# Altium schematic symbol library kmilo17pet-TI_MSP430.SchLib: 1463 symbols (part 35 of 130)
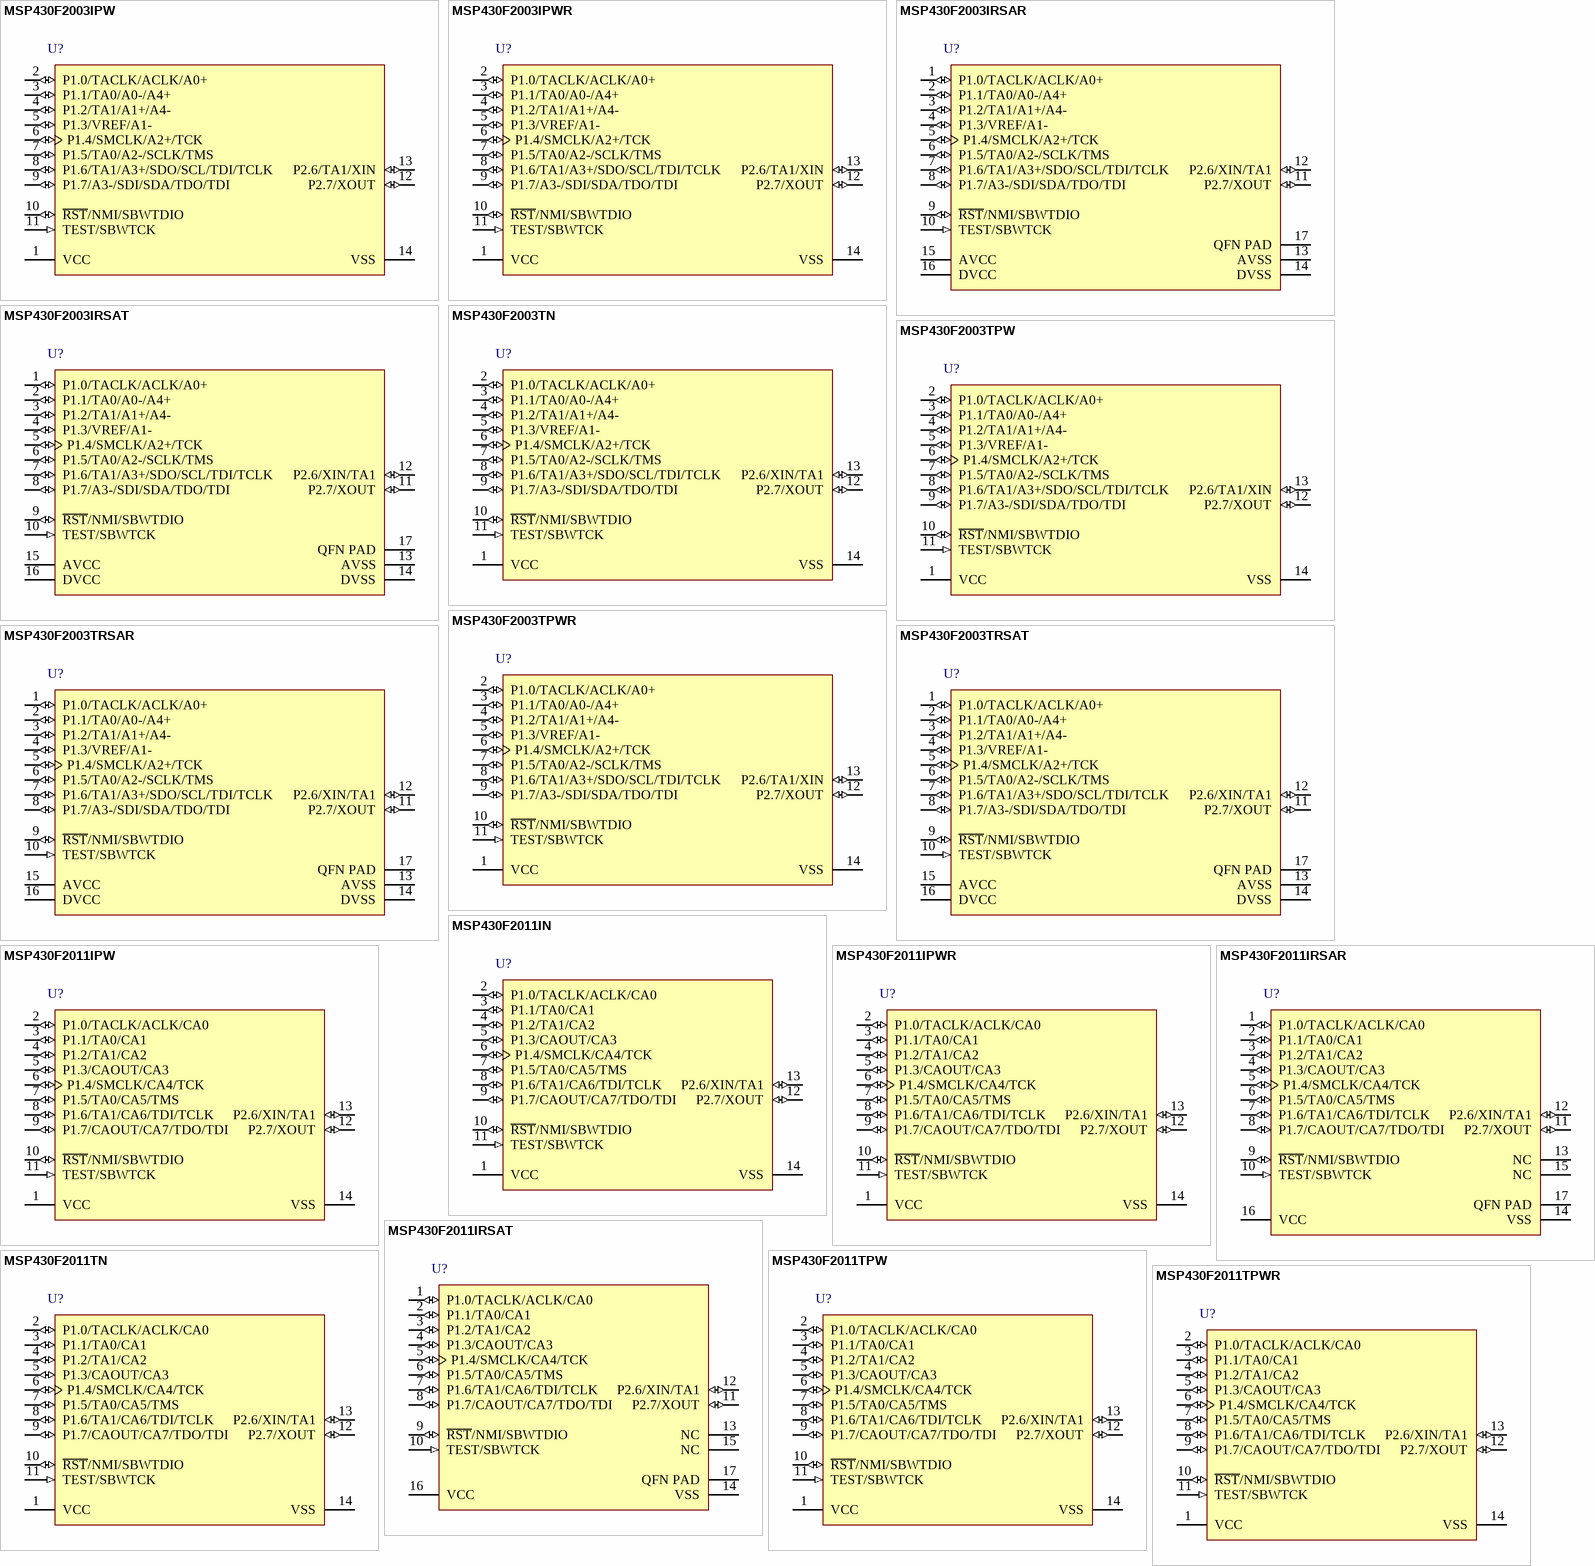
[diagram p254: symbols MSP430F2003IPW to MSP430F2011TPWR]

## MSP430F2011IRSAT
designator U?
16 MHz Mixed Signal Microcontroller with 2 KB Flash, 128 B SRAM and 10 GPIOs, -40 to 85 degC, 16-pin QFN (RSA), Green (RoHS & no Sb/Br); Manufacturer: Texas Instruments; PartNumber: MSP430F2011IRSAT; ADC: Slope; Brown Out Reset: Yes; Flash(KB): 2; Frequency(MHz): 16; GPIO: 10; SRAM(B): 128; SubFamily: 2 Series, Extended Temp; Timers - 16-bit: 1; DatasheetVersion: SLAS491H; PackageVersion: 4205141/D; PackageReference: RSA16-2700X2700TP; PackageDescription: 16-Pin Plastic Flat Pack, Body 4.00 x 4.00 mm, Pitch 0.65 mm; Supplier 1: Digi-Key; Supplier Part Number 1: MSP430F2011IRSAR-ND; Supplier 2: Newark; Supplier Part Number 2: 88K5735; Supplier 3: Mouser; Supplier Part Number 3: 595-MSP430F2011IRSAR; Comparators: Yes; Eco-Plan: Green (RoHS & no Sb/Br); Watchdog: Yes; Mounting Technology: Surface Mount; Code_JEDEC: MO-220; ComponentLink1Description: Manufacturer URL; ComponentLink1URL: http://www.ti.com/; ComponentLink2Description: Datasheet; ComponentLink2URL: http://www.ti.com/general/docs/lit/getliterature.tsp?genericPartNumber=MSP430F2011&fileType=pdf; ComponentLink3Description: Package Specification; ComponentLink3URL: http://www.ti.com/litv/pdf/mpqf145c
footprint TI-RSA16-2700X2700TP_N (QFN, 16-Leads, Body 4x4mm, Pitch 0.65mm, Thermal Pad 2.7x2.7mm, IPC Medium Density)
pins: 1 P1.0/TACLK/ACLK/CA0 (io), 2 P1.1/TA0/CA1 (io), 3 P1.2/TA1/CA2 (io), 4 P1.3/CAOUT/CA3 (io), 5 P1.4/SMCLK/CA4/TCK (io), 6 P1.5/TA0/CA5/TMS (io), 7 P1.6/TA1/CA6/TDI/TCLK (io), 8 P1.7/CAOUT/CA7/TDO/TDI (io), 9 ~{RST}/NMI/SBWTDIO (io), 10 TEST/SBWTCK (in), 11 P2.7/XOUT (io), 12 P2.6/XIN/TA1 (io), 13 NC "Not connected", 14 VSS (power) "Ground reference", 15 NC "Not connected", 16 VCC (power) "Supply voltage", 17 QFN PAD (power) "QFN package pad. Connection to VSS is recommended."

## MSP430F2011TN
designator U?
16 MHz Mixed Signal Microcontroller with 2 KB Flash, 128 B SRAM and 10 GPIOs, -40 to 105 degC, 14-pin DIP (N), Pb-Free (RoHS); Manufacturer: Texas Instruments; PartNumber: MSP430F2011TN; ADC: Slope; Brown Out Reset: Yes; Flash(KB): 2; Frequency(MHz): 16; GPIO: 10; SRAM(B): 128; SubFamily: 2 Series, Extended Temp; Timers - 16-bit: 1; DatasheetVersion: SLAS491H; PackageVersion: 4040049/E; PackageReference: N14; PackageDescription: 14-Pin Plastic In-Line, Body 19.305 x 6.35 mm, Pitch 2.54 mm; Supplier 1: Digi-Key; Supplier Part Number 1: 296-19698-2-ND; Supplier 2: Digi-Key; Supplier Part Number 2: 296-19698-1-ND; Supplier 3: Digi-Key; Supplier Part Number 3: 296-19698-6-ND; Supplier 4: Farnell; Supplier Part Number 4: 1649400; Supplier 5: Newark; Supplier Part Number 5: 85K1068; Supplier 6: Newark; Supplier Part Number 6: 15P0267; Supplier 7: Mouser; Supplier Part Number 7: 595-MSP430F2011IRSAT; Comparators: Yes; Eco-Plan: Pb-Free (RoHS); Watchdog: Yes; Mounting Technology: Through Hole; Code_JEDEC: MS-001; ComponentLink1Description: Manufacturer URL; ComponentLink1URL: http://www.ti.com/; ComponentLink2Description: Datasheet; ComponentLink2URL: http://www.ti.com/general/docs/lit/getliterature.tsp?genericPartNumber=MSP430F2011&fileType=pdf; ComponentLink3Description: Package Specification; ComponentLink3URL: http://www.ti.com/litv/pdf/mplc004a
footprint TI-N14 (DIP, 14-Leads, Body 19.305x6.35 mm, Pitch 2.54 mm)
pins: 1 VCC (power) "Supply voltage", 2 P1.0/TACLK/ACLK/CA0 (io), 3 P1.1/TA0/CA1 (io), 4 P1.2/TA1/CA2 (io), 5 P1.3/CAOUT/CA3 (io), 6 P1.4/SMCLK/CA4/TCK (io), 7 P1.5/TA0/CA5/TMS (io), 8 P1.6/TA1/CA6/TDI/TCLK (io), 9 P1.7/CAOUT/CA7/TDO/TDI (io), 10 ~{RST}/NMI/SBWTDIO (io), 11 TEST/SBWTCK (in), 12 P2.7/XOUT (io), 13 P2.6/XIN/TA1 (io), 14 VSS (power) "Ground reference"

## MSP430F2011TPW
designator U?
16 MHz Mixed Signal Microcontroller with 2 KB Flash, 128 B SRAM and 10 GPIOs, -40 to 105 degC, 14-pin SOP (PW), Green (RoHS & no Sb/Br); Manufacturer: Texas Instruments; PartNumber: MSP430F2011TPW; ADC: Slope; Brown Out Reset: Yes; Flash(KB): 2; Frequency(MHz): 16; GPIO: 10; SRAM(B): 128; SubFamily: 2 Series, Extended Temp; Timers - 16-bit: 1; DatasheetVersion: SLAS491H; PackageVersion: 4040064-3/G; PackageReference: PW14; PackageDescription: 14-Pin Plastic Small Outline, Body 5 x 4.4 mm, 0.65 mm Pitch; Supplier 1: Digi-Key; Supplier Part Number 1: 296-19699-5-ND; Supplier 2: Farnell; Supplier Part Number 2: 1753252; Supplier 3: Newark; Supplier Part Number 3: 85K1069; Supplier 4: Mouser; Supplier Part Number 4: 595-MSP430F2011TN; Comparators: Yes; Eco-Plan: Green (RoHS & no Sb/Br); Watchdog: Yes; Mounting Technology: Surface Mount; Code_JEDEC: MO-153; ComponentLink1Description: Manufacturer URL; ComponentLink1URL: http://www.ti.com/; ComponentLink2Description: Datasheet; ComponentLink2URL: http://www.ti.com/general/docs/lit/getliterature.tsp?genericPartNumber=MSP430F2011&fileType=pdf; ComponentLink3Description: Package Specification; ComponentLink3URL: http://www.ti.com/litv/pdf/mpds360
footprint TI-PW14_N (SOP, 14-Leads, Body 5x4.4mm, Pitch 0.65mm, IPC Medium Density)
pins: 1 VCC (power) "Supply voltage", 2 P1.0/TACLK/ACLK/CA0 (io), 3 P1.1/TA0/CA1 (io), 4 P1.2/TA1/CA2 (io), 5 P1.3/CAOUT/CA3 (io), 6 P1.4/SMCLK/CA4/TCK (io), 7 P1.5/TA0/CA5/TMS (io), 8 P1.6/TA1/CA6/TDI/TCLK (io), 9 P1.7/CAOUT/CA7/TDO/TDI (io), 10 ~{RST}/NMI/SBWTDIO (io), 11 TEST/SBWTCK (in), 12 P2.7/XOUT (io), 13 P2.6/XIN/TA1 (io), 14 VSS (power) "Ground reference"

## MSP430F2011TPWR
designator U?
16 MHz Mixed Signal Microcontroller with 2 KB Flash, 128 B SRAM and 10 GPIOs, -40 to 105 degC, 14-pin SOP (PW), Green (RoHS & no Sb/Br); Manufacturer: Texas Instruments; PartNumber: MSP430F2011TPWR; ADC: Slope; Brown Out Reset: Yes; Flash(KB): 2; Frequency(MHz): 16; GPIO: 10; SRAM(B): 128; SubFamily: 2 Series, Extended Temp; Timers - 16-bit: 1; DatasheetVersion: SLAS491H; PackageVersion: 4040064-3/G; PackageReference: PW14; PackageDescription: 14-Pin Plastic Small Outline, Body 5 x 4.4 mm, 0.65 mm Pitch; Supplier 1: Digi-Key; Supplier Part Number 1: MSP430F2011TPW-ND; Supplier 2: Farnell; Supplier Part Number 2: 1649402; Supplier 3: Newark; Supplier Part Number 3: 88K5736; Supplier 4: Mouser; Supplier Part Number 4: 595-MSP430F2011TPW; Comparators: Yes; Eco-Plan: Green (RoHS & no Sb/Br); Watchdog: Yes; Mounting Technology: Surface Mount; Code_JEDEC: MO-153; ComponentLink1Description: Manufacturer URL; ComponentLink1URL: http://www.ti.com/; ComponentLink2Description: Datasheet; ComponentLink2URL: http://www.ti.com/general/docs/lit/getliterature.tsp?genericPartNumber=MSP430F2011&fileType=pdf; ComponentLink3Description: Package Specification; ComponentLink3URL: http://www.ti.com/litv/pdf/mpds360
footprint TI-PW14_N (SOP, 14-Leads, Body 5x4.4mm, Pitch 0.65mm, IPC Medium Density)
pins: 1 VCC (power) "Supply voltage", 2 P1.0/TACLK/ACLK/CA0 (io), 3 P1.1/TA0/CA1 (io), 4 P1.2/TA1/CA2 (io), 5 P1.3/CAOUT/CA3 (io), 6 P1.4/SMCLK/CA4/TCK (io), 7 P1.5/TA0/CA5/TMS (io), 8 P1.6/TA1/CA6/TDI/TCLK (io), 9 P1.7/CAOUT/CA7/TDO/TDI (io), 10 ~{RST}/NMI/SBWTDIO (io), 11 TEST/SBWTCK (in), 12 P2.7/XOUT (io), 13 P2.6/XIN/TA1 (io), 14 VSS (power) "Ground reference"

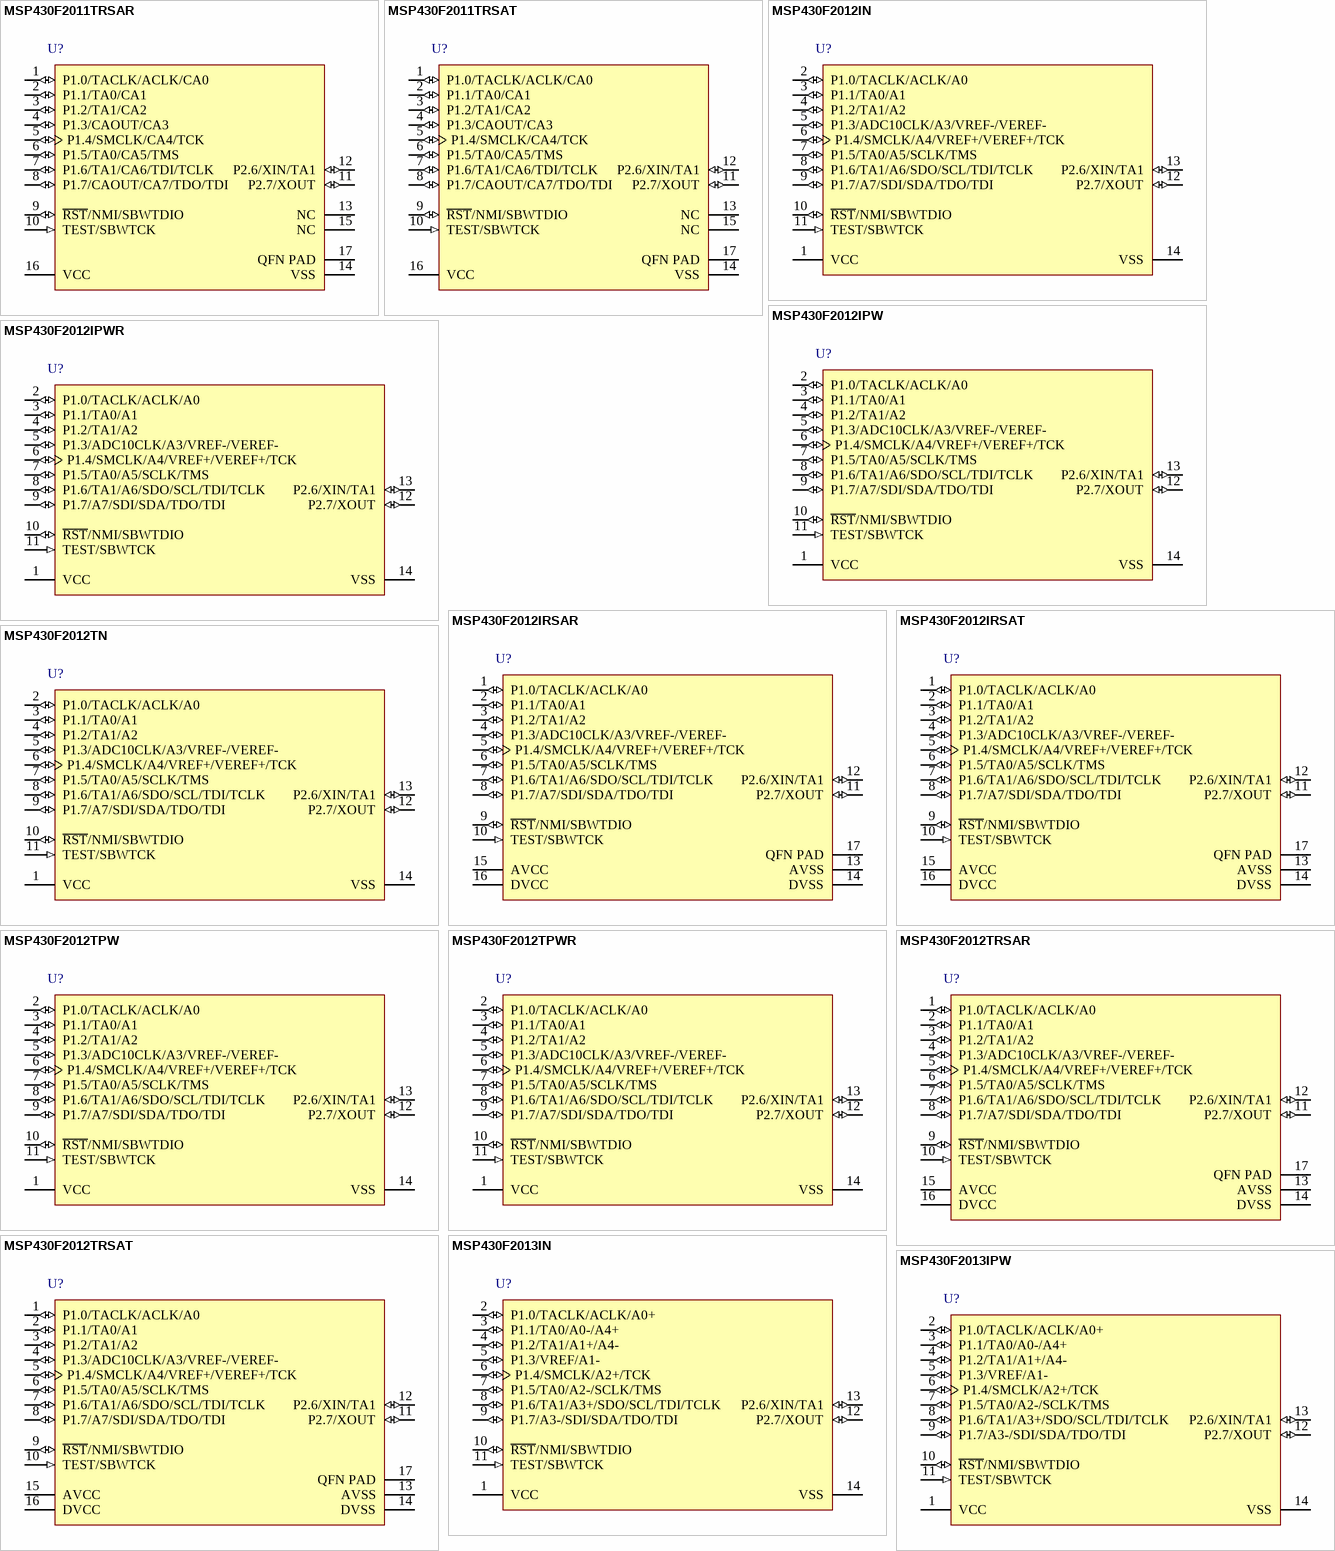
[diagram p50: symbols MSP430F2011TRSAR to MSP430F2013IPW]

## MSP430F2011TRSAR
designator U?
16 MHz Mixed Signal Microcontroller with 2 KB Flash, 128 B SRAM and 10 GPIOs, -40 to 105 degC, 16-pin QFN (RSA), Green (RoHS & no Sb/Br); Manufacturer: Texas Instruments; PartNumber: MSP430F2011TRSAR; ADC: Slope; Brown Out Reset: Yes; Flash(KB): 2; Frequency(MHz): 16; GPIO: 10; SRAM(B): 128; SubFamily: 2 Series, Extended Temp; Timers - 16-bit: 1; DatasheetVersion: SLAS491H; PackageVersion: 4205141/D; PackageReference: RSA16-2700X2700TP; PackageDescription: 16-Pin Plastic Flat Pack, Body 4.00 x 4.00 mm, Pitch 0.65 mm; Supplier 1: Digi-Key; Supplier Part Number 1: 296-19700-2-ND; Supplier 2: Digi-Key; Supplier Part Number 2: 296-19700-1-ND; Supplier 3: Digi-Key; Supplier Part Number 3: 296-19700-6-ND; Supplier 4: Newark; Supplier Part Number 4: 85K1070; Supplier 5: Mouser; Supplier Part Number 5: 595-MSP430F2011TPWR; Comparators: Yes; Eco-Plan: Green (RoHS & no Sb/Br); Watchdog: Yes; Mounting Technology: Surface Mount; Code_JEDEC: MO-220; ComponentLink1Description: Manufacturer URL; ComponentLink1URL: http://www.ti.com/; ComponentLink2Description: Datasheet; ComponentLink2URL: http://www.ti.com/general/docs/lit/getliterature.tsp?genericPartNumber=MSP430F2011&fileType=pdf; ComponentLink3Description: Package Specification; ComponentLink3URL: http://www.ti.com/litv/pdf/mpqf145c
footprint TI-RSA16-2700X2700TP_N (QFN, 16-Leads, Body 4x4mm, Pitch 0.65mm, Thermal Pad 2.7x2.7mm, IPC Medium Density)
pins: 1 P1.0/TACLK/ACLK/CA0 (io), 2 P1.1/TA0/CA1 (io), 3 P1.2/TA1/CA2 (io), 4 P1.3/CAOUT/CA3 (io), 5 P1.4/SMCLK/CA4/TCK (io), 6 P1.5/TA0/CA5/TMS (io), 7 P1.6/TA1/CA6/TDI/TCLK (io), 8 P1.7/CAOUT/CA7/TDO/TDI (io), 9 ~{RST}/NMI/SBWTDIO (io), 10 TEST/SBWTCK (in), 11 P2.7/XOUT (io), 12 P2.6/XIN/TA1 (io), 13 NC "Not connected", 14 VSS (power) "Ground reference", 15 NC "Not connected", 16 VCC (power) "Supply voltage", 17 QFN PAD (power) "QFN package pad. Connection to VSS is recommended."

## MSP430F2011TRSAT
designator U?
16 MHz Mixed Signal Microcontroller with 2 KB Flash, 128 B SRAM and 10 GPIOs, -40 to 105 degC, 16-pin QFN (RSA), Green (RoHS & no Sb/Br); Manufacturer: Texas Instruments; PartNumber: MSP430F2011TRSAT; ADC: Slope; Brown Out Reset: Yes; Flash(KB): 2; Frequency(MHz): 16; GPIO: 10; SRAM(B): 128; SubFamily: 2 Series, Extended Temp; Timers - 16-bit: 1; DatasheetVersion: SLAS491H; PackageVersion: 4205141/D; PackageReference: RSA16-2700X2700TP; PackageDescription: 16-Pin Plastic Flat Pack, Body 4.00 x 4.00 mm, Pitch 0.65 mm; Supplier 1: Digi-Key; Supplier Part Number 1: MSP430F2011TRSAR-ND; Supplier 2: Newark; Supplier Part Number 2: 88K5737; Supplier 3: Mouser; Supplier Part Number 3: 595-MSP430F2011TRSAR; Comparators: Yes; Eco-Plan: Green (RoHS & no Sb/Br); Watchdog: Yes; Mounting Technology: Surface Mount; Code_JEDEC: MO-220; ComponentLink1Description: Manufacturer URL; ComponentLink1URL: http://www.ti.com/; ComponentLink2Description: Datasheet; ComponentLink2URL: http://www.ti.com/general/docs/lit/getliterature.tsp?genericPartNumber=MSP430F2011&fileType=pdf; ComponentLink3Description: Package Specification; ComponentLink3URL: http://www.ti.com/litv/pdf/mpqf145c
footprint TI-RSA16-2700X2700TP_N (QFN, 16-Leads, Body 4x4mm, Pitch 0.65mm, Thermal Pad 2.7x2.7mm, IPC Medium Density)
pins: 1 P1.0/TACLK/ACLK/CA0 (io), 2 P1.1/TA0/CA1 (io), 3 P1.2/TA1/CA2 (io), 4 P1.3/CAOUT/CA3 (io), 5 P1.4/SMCLK/CA4/TCK (io), 6 P1.5/TA0/CA5/TMS (io), 7 P1.6/TA1/CA6/TDI/TCLK (io), 8 P1.7/CAOUT/CA7/TDO/TDI (io), 9 ~{RST}/NMI/SBWTDIO (io), 10 TEST/SBWTCK (in), 11 P2.7/XOUT (io), 12 P2.6/XIN/TA1 (io), 13 NC "Not connected", 14 VSS (power) "Ground reference", 15 NC "Not connected", 16 VCC (power) "Supply voltage", 17 QFN PAD (power) "QFN package pad. Connection to VSS is recommended."

## MSP430F2012IN
designator U?
16 MHz Mixed Signal Microcontroller with 2 KB Flash, 128 B SRAM and 10 GPIOs, -40 to 85 degC, 14-pin DIP (N), Pb-Free (RoHS); Manufacturer: Texas Instruments; PartNumber: MSP430F2012IN; ADC: 10-bit SAR; ADC Channels: 8; Brown Out Reset: Yes; Flash(KB): 2; Frequency(MHz): 16; GPIO: 10; SRAM(B): 128; SubFamily: 2 Series, Extended Temp; Timers - 16-bit: 1; DatasheetVersion: SLAS491H; PackageVersion: 4040049/E; PackageReference: N14; PackageDescription: 14-Pin Plastic In-Line, Body 19.305 x 6.35 mm, Pitch 2.54 mm; Supplier 1: Digi-Key; Supplier Part Number 1: 296-19701-2-ND; Supplier 2: Digi-Key; Supplier Part Number 2: 296-19701-1-ND; Supplier 3: Digi-Key; Supplier Part Number 3: 296-19701-6-ND; Supplier 4: Farnell; Supplier Part Number 4: 1753254; Supplier 5: Newark; Supplier Part Number 5: 93R5518; Supplier 6: Mouser; Supplier Part Number 6: 595-MSP430F2011TRSAT; Eco-Plan: Pb-Free (RoHS); Temp Sensor: Yes; Watchdog: Yes; Mounting Technology: Through Hole; Code_JEDEC: MS-001; ComponentLink1Description: Manufacturer URL; ComponentLink1URL: http://www.ti.com/; ComponentLink2Description: Datasheet; ComponentLink2URL: http://www.ti.com/general/docs/lit/getliterature.tsp?genericPartNumber=MSP430F2012&fileType=pdf; ComponentLink3Description: Package Specification; ComponentLink3URL: http://www.ti.com/litv/pdf/mplc004a
footprint TI-N14 (DIP, 14-Leads, Body 19.305x6.35 mm, Pitch 2.54 mm)
pins: 1 VCC (power) "Supply voltage.", 2 P1.0/TACLK/ACLK/A0 (io), 3 P1.1/TA0/A1 (io), 4 P1.2/TA1/A2 (io), 5 P1.3/ADC10CLK/A3/VREF-/VEREF- (io), 6 P1.4/SMCLK/A4/VREF+/VEREF+/TCK (io), 7 P1.5/TA0/A5/SCLK/TMS (io), 8 P1.6/TA1/A6/SDO/SCL/TDI/TCLK (io), 9 P1.7/A7/SDI/SDA/TDO/TDI (io), 10 ~{RST}/NMI/SBWTDIO (io), 11 TEST/SBWTCK (in), 12 P2.7/XOUT (io), 13 P2.6/XIN/TA1 (io), 14 VSS (power) "Ground reference."

## MSP430F2012IPW
designator U?
16 MHz Mixed Signal Microcontroller with 2 KB Flash, 128 B SRAM and 10 GPIOs, -40 to 85 degC, 14-pin SOP (PW), Green (RoHS & no Sb/Br); Manufacturer: Texas Instruments; PartNumber: MSP430F2012IPW; ADC: 10-bit SAR; ADC Channels: 8; Brown Out Reset: Yes; Flash(KB): 2; Frequency(MHz): 16; GPIO: 10; SRAM(B): 128; SubFamily: 2 Series, Extended Temp; Timers - 16-bit: 1; DatasheetVersion: SLAS491H; PackageVersion: 4040064-3/G; PackageReference: PW14; PackageDescription: 14-Pin Plastic Small Outline, Body 5 x 4.4 mm, 0.65 mm Pitch; Supplier 1: Digi-Key; Supplier Part Number 1: 296-19730-5-ND; Supplier 2: Farnell; Supplier Part Number 2: 1610175; Supplier 3: Newark; Supplier Part Number 3: 02P6866; Supplier 4: Mouser; Supplier Part Number 4: 595-MSP430F2012IN; Eco-Plan: Green (RoHS & no Sb/Br); Temp Sensor: Yes; Watchdog: Yes; Mounting Technology: Surface Mount; Code_JEDEC: MO-153; ComponentLink1Description: Manufacturer URL; ComponentLink1URL: http://www.ti.com/; ComponentLink2Description: Datasheet; ComponentLink2URL: http://www.ti.com/general/docs/lit/getliterature.tsp?genericPartNumber=MSP430F2012&fileType=pdf; ComponentLink3Description: Package Specification; ComponentLink3URL: http://www.ti.com/litv/pdf/mpds360
footprint TI-PW14_N (SOP, 14-Leads, Body 5x4.4mm, Pitch 0.65mm, IPC Medium Density)
pins: 1 VCC (power) "Supply voltage.", 2 P1.0/TACLK/ACLK/A0 (io), 3 P1.1/TA0/A1 (io), 4 P1.2/TA1/A2 (io), 5 P1.3/ADC10CLK/A3/VREF-/VEREF- (io), 6 P1.4/SMCLK/A4/VREF+/VEREF+/TCK (io), 7 P1.5/TA0/A5/SCLK/TMS (io), 8 P1.6/TA1/A6/SDO/SCL/TDI/TCLK (io), 9 P1.7/A7/SDI/SDA/TDO/TDI (io), 10 ~{RST}/NMI/SBWTDIO (io), 11 TEST/SBWTCK (in), 12 P2.7/XOUT (io), 13 P2.6/XIN/TA1 (io), 14 VSS (power) "Ground reference."

## MSP430F2012IPWR
designator U?
16 MHz Mixed Signal Microcontroller with 2 KB Flash, 128 B SRAM and 10 GPIOs, -40 to 85 degC, 14-pin SOP (PW), Green (RoHS & no Sb/Br); Manufacturer: Texas Instruments; PartNumber: MSP430F2012IPWR; ADC: 10-bit SAR; ADC Channels: 8; Brown Out Reset: Yes; Flash(KB): 2; Frequency(MHz): 16; GPIO: 10; SRAM(B): 128; SubFamily: 2 Series, Extended Temp; Timers - 16-bit: 1; DatasheetVersion: SLAS491H; PackageVersion: 4040064-3/G; PackageReference: PW14; PackageDescription: 14-Pin Plastic Small Outline, Body 5 x 4.4 mm, 0.65 mm Pitch; Supplier 1: Digi-Key; Supplier Part Number 1: 296-26192-5-ND; Supplier 2: Farnell; Supplier Part Number 2: 1471274; Supplier 3: Newark; Supplier Part Number 3: 99K3820; Supplier 4: Mouser; Supplier Part Number 4: 595-MSP430F2012IPW; Eco-Plan: Green (RoHS & no Sb/Br); Temp Sensor: Yes; Watchdog: Yes; Mounting Technology: Surface Mount; Code_JEDEC: MO-153; ComponentLink1Description: Manufacturer URL; ComponentLink1URL: http://www.ti.com/; ComponentLink2Description: Datasheet; ComponentLink2URL: http://www.ti.com/general/docs/lit/getliterature.tsp?genericPartNumber=MSP430F2012&fileType=pdf; ComponentLink3Description: Package Specification; ComponentLink3URL: http://www.ti.com/litv/pdf/mpds360
footprint TI-PW14_N (SOP, 14-Leads, Body 5x4.4mm, Pitch 0.65mm, IPC Medium Density)
pins: 1 VCC (power) "Supply voltage.", 2 P1.0/TACLK/ACLK/A0 (io), 3 P1.1/TA0/A1 (io), 4 P1.2/TA1/A2 (io), 5 P1.3/ADC10CLK/A3/VREF-/VEREF- (io), 6 P1.4/SMCLK/A4/VREF+/VEREF+/TCK (io), 7 P1.5/TA0/A5/SCLK/TMS (io), 8 P1.6/TA1/A6/SDO/SCL/TDI/TCLK (io), 9 P1.7/A7/SDI/SDA/TDO/TDI (io), 10 ~{RST}/NMI/SBWTDIO (io), 11 TEST/SBWTCK (in), 12 P2.7/XOUT (io), 13 P2.6/XIN/TA1 (io), 14 VSS (power) "Ground reference."

## MSP430F2012IRSAR
designator U?
16 MHz Mixed Signal Microcontroller with 2 KB Flash, 128 B SRAM and 10 GPIOs, -40 to 85 degC, 16-pin QFN (RSA), Green (RoHS & no Sb/Br); Manufacturer: Texas Instruments; PartNumber: MSP430F2012IRSAR; ADC: 10-bit SAR; ADC Channels: 8; Brown Out Reset: Yes; Flash(KB): 2; Frequency(MHz): 16; GPIO: 10; SRAM(B): 128; SubFamily: 2 Series, Extended Temp; Timers - 16-bit: 1; DatasheetVersion: SLAS491H; PackageVersion: 4205141/D; PackageReference: RSA16-2700X2700TP; PackageDescription: 16-Pin Plastic Flat Pack, Body 4.00 x 4.00 mm, Pitch 0.65 mm; Supplier 1: Digi-Key; Supplier Part Number 1: 296-19731-2-ND; Supplier 2: Digi-Key; Supplier Part Number 2: 296-19731-1-ND; Supplier 3: Digi-Key; Supplier Part Number 3: 296-19731-6-ND; Supplier 4: Farnell; Supplier Part Number 4: 1846720; Supplier 5: Newark; Supplier Part Number 5: 88K5739; Supplier 6: Mouser; Supplier Part Number 6: 595-MSP430F2012IPWR; Eco-Plan: Green (RoHS & no Sb/Br); Temp Sensor: Yes; Watchdog: Yes; Mounting Technology: Surface Mount; Code_JEDEC: MO-220; ComponentLink1Description: Manufacturer URL; ComponentLink1URL: http://www.ti.com/; ComponentLink2Description: Datasheet; ComponentLink2URL: http://www.ti.com/general/docs/lit/getliterature.tsp?genericPartNumber=MSP430F2012&fileType=pdf; ComponentLink3Description: Package Specification; ComponentLink3URL: http://www.ti.com/litv/pdf/mpqf145c
footprint TI-RSA16-2700X2700TP_N (QFN, 16-Leads, Body 4x4mm, Pitch 0.65mm, Thermal Pad 2.7x2.7mm, IPC Medium Density)
pins: 1 P1.0/TACLK/ACLK/A0 (io), 2 P1.1/TA0/A1 (io), 3 P1.2/TA1/A2 (io), 4 P1.3/ADC10CLK/A3/VREF-/VEREF- (io), 5 P1.4/SMCLK/A4/VREF+/VEREF+/TCK (io), 6 P1.5/TA0/A5/SCLK/TMS (io), 7 P1.6/TA1/A6/SDO/SCL/TDI/TCLK (io), 8 P1.7/A7/SDI/SDA/TDO/TDI (io), 9 ~{RST}/NMI/SBWTDIO (io), 10 TEST/SBWTCK (in), 11 P2.7/XOUT (io), 12 P2.6/XIN/TA1 (io), 13 AVSS (power) "Analog ground reference", 14 DVSS (power) "Digital ground reference", 15 AVCC (power) "Analog supply voltage", 16 DVCC (power) "Digital supply voltage", 17 QFN PAD (power) "QFN package pad. Connection to VSS is recommended."

## MSP430F2012IRSAT
designator U?
16 MHz Mixed Signal Microcontroller with 2 KB Flash, 128 B SRAM and 10 GPIOs, -40 to 85 degC, 16-pin QFN (RSA), Green (RoHS & no Sb/Br); Manufacturer: Texas Instruments; PartNumber: MSP430F2012IRSAT; ADC: 10-bit SAR; ADC Channels: 8; Brown Out Reset: Yes; Flash(KB): 2; Frequency(MHz): 16; GPIO: 10; SRAM(B): 128; SubFamily: 2 Series, Extended Temp; Timers - 16-bit: 1; DatasheetVersion: SLAS491H; PackageVersion: 4205141/D; PackageReference: RSA16-2700X2700TP; PackageDescription: 16-Pin Plastic Flat Pack, Body 4.00 x 4.00 mm, Pitch 0.65 mm; Supplier 1: Digi-Key; Supplier Part Number 1: MSP430F2012IRSAR-ND; Supplier 2: Newark; Supplier Part Number 2: 99K3821; Supplier 3: Mouser; Supplier Part Number 3: 595-MSP430F2012IRSAR; Eco-Plan: Green (RoHS & no Sb/Br); Temp Sensor: Yes; Watchdog: Yes; Mounting Technology: Surface Mount; Code_JEDEC: MO-220; ComponentLink1Description: Manufacturer URL; ComponentLink1URL: http://www.ti.com/; ComponentLink2Description: Datasheet; ComponentLink2URL: http://www.ti.com/general/docs/lit/getliterature.tsp?genericPartNumber=MSP430F2012&fileType=pdf; ComponentLink3Description: Package Specification; ComponentLink3URL: http://www.ti.com/litv/pdf/mpqf145c
footprint TI-RSA16-2700X2700TP_N (QFN, 16-Leads, Body 4x4mm, Pitch 0.65mm, Thermal Pad 2.7x2.7mm, IPC Medium Density)
pins: 1 P1.0/TACLK/ACLK/A0 (io), 2 P1.1/TA0/A1 (io), 3 P1.2/TA1/A2 (io), 4 P1.3/ADC10CLK/A3/VREF-/VEREF- (io), 5 P1.4/SMCLK/A4/VREF+/VEREF+/TCK (io), 6 P1.5/TA0/A5/SCLK/TMS (io), 7 P1.6/TA1/A6/SDO/SCL/TDI/TCLK (io), 8 P1.7/A7/SDI/SDA/TDO/TDI (io), 9 ~{RST}/NMI/SBWTDIO (io), 10 TEST/SBWTCK (in), 11 P2.7/XOUT (io), 12 P2.6/XIN/TA1 (io), 13 AVSS (power) "Analog ground reference", 14 DVSS (power) "Digital ground reference", 15 AVCC (power) "Analog supply voltage", 16 DVCC (power) "Digital supply voltage", 17 QFN PAD (power) "QFN package pad. Connection to VSS is recommended."

## MSP430F2012TN
designator U?
16 MHz Mixed Signal Microcontroller with 2 KB Flash, 128 B SRAM and 10 GPIOs, -40 to 105 degC, 14-pin DIP (N), Pb-Free (RoHS); Manufacturer: Texas Instruments; PartNumber: MSP430F2012TN; ADC: 10-bit SAR; ADC Channels: 8; Brown Out Reset: Yes; Flash(KB): 2; Frequency(MHz): 16; GPIO: 10; SRAM(B): 128; SubFamily: 2 Series, Extended Temp; Timers - 16-bit: 1; DatasheetVersion: SLAS491H; PackageVersion: 4040049/E; PackageReference: N14; PackageDescription: 14-Pin Plastic In-Line, Body 19.305 x 6.35 mm, Pitch 2.54 mm; Supplier 1: Digi-Key; Supplier Part Number 1: 296-19732-2-ND; Supplier 2: Digi-Key; Supplier Part Number 2: 296-19732-1-ND; Supplier 3: Digi-Key; Supplier Part Number 3: 296-19732-6-ND; Supplier 4: Farnell; Supplier Part Number 4: 1649403; Supplier 5: Newark; Supplier Part Number 5: 88K5740; Supplier 6: Newark; Supplier Part Number 6: 15P0268; Supplier 7: Mouser; Supplier Part Number 7: 595-MSP430F2012IRSAT; Eco-Plan: Pb-Free (RoHS); Temp Sensor: Yes; Watchdog: Yes; Mounting Technology: Through Hole; Code_JEDEC: MS-001; ComponentLink1Description: Manufacturer URL; ComponentLink1URL: http://www.ti.com/; ComponentLink2Description: Datasheet; ComponentLink2URL: http://www.ti.com/general/docs/lit/getliterature.tsp?genericPartNumber=MSP430F2012&fileType=pdf; ComponentLink3Description: Package Specification; ComponentLink3URL: http://www.ti.com/litv/pdf/mplc004a
footprint TI-N14 (DIP, 14-Leads, Body 19.305x6.35 mm, Pitch 2.54 mm)
pins: 1 VCC (power) "Supply voltage.", 2 P1.0/TACLK/ACLK/A0 (io), 3 P1.1/TA0/A1 (io), 4 P1.2/TA1/A2 (io), 5 P1.3/ADC10CLK/A3/VREF-/VEREF- (io), 6 P1.4/SMCLK/A4/VREF+/VEREF+/TCK (io), 7 P1.5/TA0/A5/SCLK/TMS (io), 8 P1.6/TA1/A6/SDO/SCL/TDI/TCLK (io), 9 P1.7/A7/SDI/SDA/TDO/TDI (io), 10 ~{RST}/NMI/SBWTDIO (io), 11 TEST/SBWTCK (in), 12 P2.7/XOUT (io), 13 P2.6/XIN/TA1 (io), 14 VSS (power) "Ground reference."

## MSP430F2012TPW
designator U?
16 MHz Mixed Signal Microcontroller with 2 KB Flash, 128 B SRAM and 10 GPIOs, -40 to 105 degC, 14-pin SOP (PW), Green (RoHS & no Sb/Br); Manufacturer: Texas Instruments; PartNumber: MSP430F2012TPW; ADC: 10-bit SAR; ADC Channels: 8; Brown Out Reset: Yes; Flash(KB): 2; Frequency(MHz): 16; GPIO: 10; SRAM(B): 128; SubFamily: 2 Series, Extended Temp; Timers - 16-bit: 1; DatasheetVersion: SLAS491H; PackageVersion: 4040064-3/G; PackageReference: PW14; PackageDescription: 14-Pin Plastic Small Outline, Body 5 x 4.4 mm, 0.65 mm Pitch; Supplier 1: Digi-Key; Supplier Part Number 1: 296-19733-5-ND; Supplier 2: Farnell; Supplier Part Number 2: 1649404; Supplier 3: Newark; Supplier Part Number 3: 88K5741; Supplier 4: Mouser; Supplier Part Number 4: 595-MSP430F2012TN; Eco-Plan: Green (RoHS & no Sb/Br); Temp Sensor: Yes; Watchdog: Yes; Mounting Technology: Surface Mount; Code_JEDEC: MO-153; ComponentLink1Description: Manufacturer URL; ComponentLink1URL: http://www.ti.com/; ComponentLink2Description: Datasheet; ComponentLink2URL: http://www.ti.com/general/docs/lit/getliterature.tsp?genericPartNumber=MSP430F2012&fileType=pdf; ComponentLink3Description: Package Specification; ComponentLink3URL: http://www.ti.com/litv/pdf/mpds360
footprint TI-PW14_N (SOP, 14-Leads, Body 5x4.4mm, Pitch 0.65mm, IPC Medium Density)
pins: 1 VCC (power) "Supply voltage.", 2 P1.0/TACLK/ACLK/A0 (io), 3 P1.1/TA0/A1 (io), 4 P1.2/TA1/A2 (io), 5 P1.3/ADC10CLK/A3/VREF-/VEREF- (io), 6 P1.4/SMCLK/A4/VREF+/VEREF+/TCK (io), 7 P1.5/TA0/A5/SCLK/TMS (io), 8 P1.6/TA1/A6/SDO/SCL/TDI/TCLK (io), 9 P1.7/A7/SDI/SDA/TDO/TDI (io), 10 ~{RST}/NMI/SBWTDIO (io), 11 TEST/SBWTCK (in), 12 P2.7/XOUT (io), 13 P2.6/XIN/TA1 (io), 14 VSS (power) "Ground reference."

## MSP430F2012TPWR
designator U?
16 MHz Mixed Signal Microcontroller with 2 KB Flash, 128 B SRAM and 10 GPIOs, -40 to 105 degC, 14-pin SOP (PW), Green (RoHS & no Sb/Br); Manufacturer: Texas Instruments; PartNumber: MSP430F2012TPWR; ADC: 10-bit SAR; ADC Channels: 8; Brown Out Reset: Yes; Flash(KB): 2; Frequency(MHz): 16; GPIO: 10; SRAM(B): 128; SubFamily: 2 Series, Extended Temp; Timers - 16-bit: 1; DatasheetVersion: SLAS491H; PackageVersion: 4040064-3/G; PackageReference: PW14; PackageDescription: 14-Pin Plastic Small Outline, Body 5 x 4.4 mm, 0.65 mm Pitch; Supplier 1: Digi-Key; Supplier Part Number 1: 296-33416-5-ND; Supplier 2: Farnell; Supplier Part Number 2: 1649405; Supplier 3: Newark; Supplier Part Number 3: 99K3822; Supplier 4: Mouser; Supplier Part Number 4: 595-MSP430F2012TPW; Eco-Plan: Green (RoHS & no Sb/Br); Temp Sensor: Yes; Watchdog: Yes; Mounting Technology: Surface Mount; Code_JEDEC: MO-153; ComponentLink1Description: Manufacturer URL; ComponentLink1URL: http://www.ti.com/; ComponentLink2Description: Datasheet; ComponentLink2URL: http://www.ti.com/general/docs/lit/getliterature.tsp?genericPartNumber=MSP430F2012&fileType=pdf; ComponentLink3Description: Package Specification; ComponentLink3URL: http://www.ti.com/litv/pdf/mpds360
footprint TI-PW14_N (SOP, 14-Leads, Body 5x4.4mm, Pitch 0.65mm, IPC Medium Density)
pins: 1 VCC (power) "Supply voltage.", 2 P1.0/TACLK/ACLK/A0 (io), 3 P1.1/TA0/A1 (io), 4 P1.2/TA1/A2 (io), 5 P1.3/ADC10CLK/A3/VREF-/VEREF- (io), 6 P1.4/SMCLK/A4/VREF+/VEREF+/TCK (io), 7 P1.5/TA0/A5/SCLK/TMS (io), 8 P1.6/TA1/A6/SDO/SCL/TDI/TCLK (io), 9 P1.7/A7/SDI/SDA/TDO/TDI (io), 10 ~{RST}/NMI/SBWTDIO (io), 11 TEST/SBWTCK (in), 12 P2.7/XOUT (io), 13 P2.6/XIN/TA1 (io), 14 VSS (power) "Ground reference."

## MSP430F2012TRSAR
designator U?
16 MHz Mixed Signal Microcontroller with 2 KB Flash, 128 B SRAM and 10 GPIOs, -40 to 105 degC, 16-pin QFN (RSA), Green (RoHS & no Sb/Br); Manufacturer: Texas Instruments; PartNumber: MSP430F2012TRSAR; ADC: 10-bit SAR; ADC Channels: 8; Brown Out Reset: Yes; Flash(KB): 2; Frequency(MHz): 16; GPIO: 10; SRAM(B): 128; SubFamily: 2 Series, Extended Temp; Timers - 16-bit: 1; DatasheetVersion: SLAS491H; PackageVersion: 4205141/D; PackageReference: RSA16-2700X2700TP; PackageDescription: 16-Pin Plastic Flat Pack, Body 4.00 x 4.00 mm, Pitch 0.65 mm; Supplier 1: Digi-Key; Supplier Part Number 1: 296-19734-2-ND; Supplier 2: Digi-Key; Supplier Part Number 2: 296-19734-1-ND; Supplier 3: Digi-Key; Supplier Part Number 3: 296-19734-6-ND; Supplier 4: Farnell; Supplier Part Number 4: 1846721; Supplier 5: Newark; Supplier Part Number 5: 88K5742; Supplier 6: Mouser; Supplier Part Number 6: 595-MSP430F2012TPWR; Eco-Plan: Green (RoHS & no Sb/Br); Temp Sensor: Yes; Watchdog: Yes; Mounting Technology: Surface Mount; Code_JEDEC: MO-220; ComponentLink1Description: Manufacturer URL; ComponentLink1URL: http://www.ti.com/; ComponentLink2Description: Datasheet; ComponentLink2URL: http://www.ti.com/general/docs/lit/getliterature.tsp?genericPartNumber=MSP430F2012&fileType=pdf; ComponentLink3Description: Package Specification; ComponentLink3URL: http://www.ti.com/litv/pdf/mpqf145c
footprint TI-RSA16-2700X2700TP_N (QFN, 16-Leads, Body 4x4mm, Pitch 0.65mm, Thermal Pad 2.7x2.7mm, IPC Medium Density)
pins: 1 P1.0/TACLK/ACLK/A0 (io), 2 P1.1/TA0/A1 (io), 3 P1.2/TA1/A2 (io), 4 P1.3/ADC10CLK/A3/VREF-/VEREF- (io), 5 P1.4/SMCLK/A4/VREF+/VEREF+/TCK (io), 6 P1.5/TA0/A5/SCLK/TMS (io), 7 P1.6/TA1/A6/SDO/SCL/TDI/TCLK (io), 8 P1.7/A7/SDI/SDA/TDO/TDI (io), 9 ~{RST}/NMI/SBWTDIO (io), 10 TEST/SBWTCK (in), 11 P2.7/XOUT (io), 12 P2.6/XIN/TA1 (io), 13 AVSS (power) "Analog ground reference", 14 DVSS (power) "Digital ground reference", 15 AVCC (power) "Analog supply voltage", 16 DVCC (power) "Digital supply voltage", 17 QFN PAD (power) "QFN package pad. Connection to VSS is recommended."

## MSP430F2012TRSAT
designator U?
16 MHz Mixed Signal Microcontroller with 2 KB Flash, 128 B SRAM and 10 GPIOs, -40 to 105 degC, 16-pin QFN (RSA), Green (RoHS & no Sb/Br); Manufacturer: Texas Instruments; PartNumber: MSP430F2012TRSAT; ADC: 10-bit SAR; ADC Channels: 8; Brown Out Reset: Yes; Flash(KB): 2; Frequency(MHz): 16; GPIO: 10; SRAM(B): 128; SubFamily: 2 Series, Extended Temp; Timers - 16-bit: 1; DatasheetVersion: SLAS491H; PackageVersion: 4205141/D; PackageReference: RSA16-2700X2700TP; PackageDescription: 16-Pin Plastic Flat Pack, Body 4.00 x 4.00 mm, Pitch 0.65 mm; Supplier 1: Digi-Key; Supplier Part Number 1: MSP430F2012TRSAR-ND; Supplier 2: Mouser; Supplier Part Number 2: 595-MSP430F2012TRSAR; Eco-Plan: Green (RoHS & no Sb/Br); Temp Sensor: Yes; Watchdog: Yes; Mounting Technology: Surface Mount; Code_JEDEC: MO-220; ComponentLink1Description: Manufacturer URL; ComponentLink1URL: http://www.ti.com/; ComponentLink2Description: Datasheet; ComponentLink2URL: http://www.ti.com/general/docs/lit/getliterature.tsp?genericPartNumber=MSP430F2012&fileType=pdf; ComponentLink3Description: Package Specification; ComponentLink3URL: http://www.ti.com/litv/pdf/mpqf145c
footprint TI-RSA16-2700X2700TP_N (QFN, 16-Leads, Body 4x4mm, Pitch 0.65mm, Thermal Pad 2.7x2.7mm, IPC Medium Density)
pins: 1 P1.0/TACLK/ACLK/A0 (io), 2 P1.1/TA0/A1 (io), 3 P1.2/TA1/A2 (io), 4 P1.3/ADC10CLK/A3/VREF-/VEREF- (io), 5 P1.4/SMCLK/A4/VREF+/VEREF+/TCK (io), 6 P1.5/TA0/A5/SCLK/TMS (io), 7 P1.6/TA1/A6/SDO/SCL/TDI/TCLK (io), 8 P1.7/A7/SDI/SDA/TDO/TDI (io), 9 ~{RST}/NMI/SBWTDIO (io), 10 TEST/SBWTCK (in), 11 P2.7/XOUT (io), 12 P2.6/XIN/TA1 (io), 13 AVSS (power) "Analog ground reference", 14 DVSS (power) "Digital ground reference", 15 AVCC (power) "Analog supply voltage", 16 DVCC (power) "Digital supply voltage", 17 QFN PAD (power) "QFN package pad. Connection to VSS is recommended."

## MSP430F2013IN
designator U?
16 MHz Mixed Signal Microcontroller with 2 KB Flash, 128 B SRAM and 10 GPIOs, -40 to 85 degC, 14-pin DIP (N), Pb-Free (RoHS); Manufacturer: Texas Instruments; PartNumber: MSP430F2013IN; ADC: 16-bit Sigma Delta; ADC Channels: 4; Brown Out Reset: Yes; Flash(KB): 2; Frequency(MHz): 16; GPIO: 10; SRAM(B): 128; SubFamily: 2 Series, Extended Temp; Timers - 16-bit: 1; DatasheetVersion: SLAS491H; PackageVersion: 4040049/E; PackageReference: N14; PackageDescription: 14-Pin Plastic In-Line, Body 19.305 x 6.35 mm, Pitch 2.54 mm; Supplier 1: Digi-Key; Supplier Part Number 1: 296-19735-2-ND; Supplier 2: Digi-Key; Supplier Part Number 2: 296-19735-1-ND; Supplier 3: Digi-Key; Supplier Part Number 3: 296-19735-6-ND; Supplier 4: Farnell; Supplier Part Number 4: 1753255; Supplier 5: Newark; Supplier Part Number 5: 88K5743; Supplier 6: Mouser; Supplier Part Number 6: 595-MSP430F2012TRSAT; Eco-Plan: Pb-Free (RoHS); Temp Sensor: Yes; Watchdog: Yes; Mounting Technology: Through Hole; Code_JEDEC: MS-001; ComponentLink1Description: Manufacturer URL; ComponentLink1URL: http://www.ti.com/; ComponentLink2Description: Datasheet; ComponentLink2URL: http://www.ti.com/general/docs/lit/getliterature.tsp?genericPartNumber=MSP430F2013&fileType=pdf; ComponentLink3Description: Package Specification; ComponentLink3URL: http://www.ti.com/litv/pdf/mplc004a
footprint TI-N14 (DIP, 14-Leads, Body 19.305x6.35 mm, Pitch 2.54 mm)
pins: 1 VCC (power) "Supply voltage", 2 P1.0/TACLK/ACLK/A0+ (io), 3 P1.1/TA0/A0-/A4+ (io), 4 P1.2/TA1/A1+/A4- (io), 5 P1.3/VREF/A1- (io), 6 P1.4/SMCLK/A2+/TCK (io), 7 P1.5/TA0/A2-/SCLK/TMS (io), 8 P1.6/TA1/A3+/SDO/SCL/TDI/TCLK (io), 9 P1.7/A3-/SDI/SDA/TDO/TDI (io), 10 ~{RST}/NMI/SBWTDIO (io), 11 TEST/SBWTCK (in), 12 P2.7/XOUT (io), 13 P2.6/XIN/TA1 (io), 14 VSS (power) "Ground reference"

## MSP430F2013IPW
designator U?
16 MHz Mixed Signal Microcontroller with 2 KB Flash, 128 B SRAM and 10 GPIOs, -40 to 85 degC, 14-pin SOP (PW), Green (RoHS & no Sb/Br); Manufacturer: Texas Instruments; PartNumber: MSP430F2013IPW; ADC: 16-bit Sigma Delta; ADC Channels: 4; Brown Out Reset: Yes; Flash(KB): 2; Frequency(MHz): 16; GPIO: 10; SRAM(B): 128; SubFamily: 2 Series, Extended Temp; Timers - 16-bit: 1; DatasheetVersion: SLAS491H; PackageVersion: 4040064-3/G; PackageReference: PW14; PackageDescription: 14-Pin Plastic Small Outline, Body 5 x 4.4 mm, 0.65 mm Pitch; Supplier 1: Digi-Key; Supplier Part Number 1: 296-19702-5-ND; Supplier 2: Farnell; Supplier Part Number 2: 1610176; Supplier 3: Newark; Supplier Part Number 3: 02P6867; Supplier 4: Mouser; Supplier Part Number 4: 595-MSP430F2013IN; Eco-Plan: Green (RoHS & no Sb/Br); Temp Sensor: Yes; Watchdog: Yes; Mounting Technology: Surface Mount; Code_JEDEC: MO-153; ComponentLink1Description: Manufacturer URL; ComponentLink1URL: http://www.ti.com/; ComponentLink2Description: Datasheet; ComponentLink2URL: http://www.ti.com/general/docs/lit/getliterature.tsp?genericPartNumber=MSP430F2013&fileType=pdf; ComponentLink3Description: Package Specification; ComponentLink3URL: http://www.ti.com/litv/pdf/mpds360
footprint TI-PW14_N (SOP, 14-Leads, Body 5x4.4mm, Pitch 0.65mm, IPC Medium Density)
pins: 1 VCC (power) "Supply voltage", 2 P1.0/TACLK/ACLK/A0+ (io), 3 P1.1/TA0/A0-/A4+ (io), 4 P1.2/TA1/A1+/A4- (io), 5 P1.3/VREF/A1- (io), 6 P1.4/SMCLK/A2+/TCK (io), 7 P1.5/TA0/A2-/SCLK/TMS (io), 8 P1.6/TA1/A3+/SDO/SCL/TDI/TCLK (io), 9 P1.7/A3-/SDI/SDA/TDO/TDI (io), 10 ~{RST}/NMI/SBWTDIO (io), 11 TEST/SBWTCK (in), 12 P2.7/XOUT (io), 13 P2.6/XIN/TA1 (io), 14 VSS (power) "Ground reference"

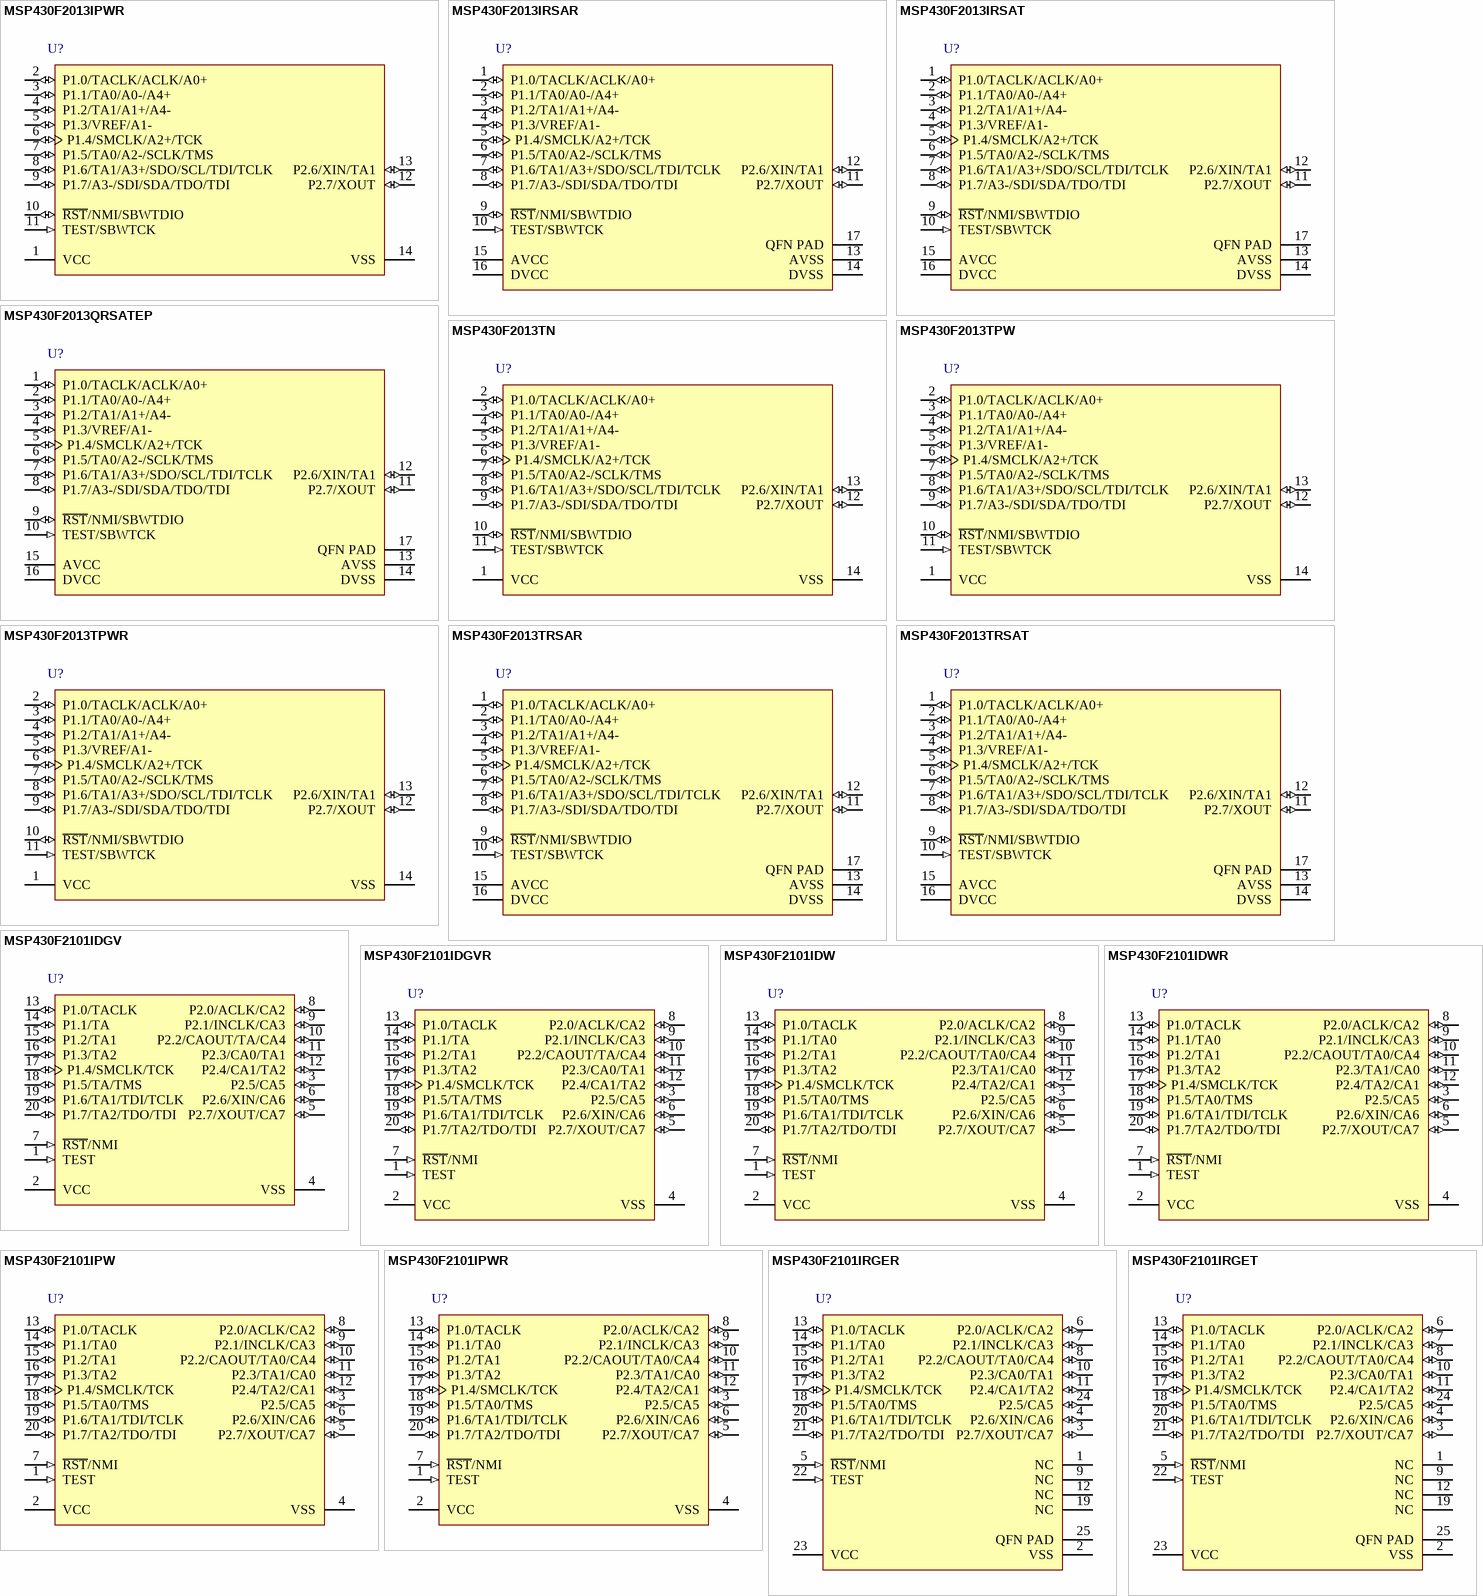
[diagram p51: symbols MSP430F2013IPWR to MSP430F2101IRGET]

## MSP430F2013IPWR
designator U?
16 MHz Mixed Signal Microcontroller with 2 KB Flash, 128 B SRAM and 10 GPIOs, -40 to 85 degC, 14-pin SOP (PW), Green (RoHS & no Sb/Br); Manufacturer: Texas Instruments; PartNumber: MSP430F2013IPWR; ADC: 16-bit Sigma Delta; ADC Channels: 4; Brown Out Reset: Yes; Flash(KB): 2; Frequency(MHz): 16; GPIO: 10; SRAM(B): 128; SubFamily: 2 Series, Extended Temp; Timers - 16-bit: 1; DatasheetVersion: SLAS491H; PackageVersion: 4040064-3/G; PackageReference: PW14; PackageDescription: 14-Pin Plastic Small Outline, Body 5 x 4.4 mm, 0.65 mm Pitch; Supplier 1: Digi-Key; Supplier Part Number 1: 296-26193-5-ND; Supplier 2: Farnell; Supplier Part Number 2: 1172228; Supplier 3: Newark; Supplier Part Number 3: 66K3842; Supplier 4: Mouser; Supplier Part Number 4: 595-MSP430F2013IPW; Eco-Plan: Green (RoHS & no Sb/Br); Temp Sensor: Yes; Watchdog: Yes; Mounting Technology: Surface Mount; Code_JEDEC: MO-153; ComponentLink1Description: Manufacturer URL; ComponentLink1URL: http://www.ti.com/; ComponentLink2Description: Datasheet; ComponentLink2URL: http://www.ti.com/general/docs/lit/getliterature.tsp?genericPartNumber=MSP430F2013&fileType=pdf; ComponentLink3Description: Package Specification; ComponentLink3URL: http://www.ti.com/litv/pdf/mpds360
footprint TI-PW14_N (SOP, 14-Leads, Body 5x4.4mm, Pitch 0.65mm, IPC Medium Density)
pins: 1 VCC (power) "Supply voltage", 2 P1.0/TACLK/ACLK/A0+ (io), 3 P1.1/TA0/A0-/A4+ (io), 4 P1.2/TA1/A1+/A4- (io), 5 P1.3/VREF/A1- (io), 6 P1.4/SMCLK/A2+/TCK (io), 7 P1.5/TA0/A2-/SCLK/TMS (io), 8 P1.6/TA1/A3+/SDO/SCL/TDI/TCLK (io), 9 P1.7/A3-/SDI/SDA/TDO/TDI (io), 10 ~{RST}/NMI/SBWTDIO (io), 11 TEST/SBWTCK (in), 12 P2.7/XOUT (io), 13 P2.6/XIN/TA1 (io), 14 VSS (power) "Ground reference"

## MSP430F2013IRSAR
designator U?
16 MHz Mixed Signal Microcontroller with 2 KB Flash, 128 B SRAM and 10 GPIOs, -40 to 85 degC, 16-pin QFN (RSA), Green (RoHS & no Sb/Br); Manufacturer: Texas Instruments; PartNumber: MSP430F2013IRSAR; ADC: 16-bit Sigma Delta; ADC Channels: 4; Brown Out Reset: Yes; Flash(KB): 2; Frequency(MHz): 16; GPIO: 10; SRAM(B): 128; SubFamily: 2 Series, Extended Temp; Timers - 16-bit: 1; DatasheetVersion: SLAS491H; PackageVersion: 4205141/D; PackageReference: RSA16-2700X2700TP; PackageDescription: 16-Pin Plastic Flat Pack, Body 4.00 x 4.00 mm, Pitch 0.65 mm; Supplier 1: Digi-Key; Supplier Part Number 1: 296-19262-2-ND; Supplier 2: Digi-Key; Supplier Part Number 2: 296-19262-1-ND; Supplier 3: Digi-Key; Supplier Part Number 3: 296-19262-6-ND; Supplier 4: Farnell; Supplier Part Number 4: 1846606; Supplier 5: Newark; Supplier Part Number 5: 66K3843; Supplier 6: Mouser; Supplier Part Number 6: 595-MSP430F2013IPWR; Eco-Plan: Green (RoHS & no Sb/Br); Temp Sensor: Yes; Watchdog: Yes; Mounting Technology: Surface Mount; Code_JEDEC: MO-220; ComponentLink1Description: Manufacturer URL; ComponentLink1URL: http://www.ti.com/; ComponentLink2Description: Datasheet; ComponentLink2URL: http://www.ti.com/general/docs/lit/getliterature.tsp?genericPartNumber=MSP430F2013&fileType=pdf; ComponentLink3Description: Package Specification; ComponentLink3URL: http://www.ti.com/litv/pdf/mpqf145c
footprint TI-RSA16-2700X2700TP_N (QFN, 16-Leads, Body 4x4mm, Pitch 0.65mm, Thermal Pad 2.7x2.7mm, IPC Medium Density)
pins: 1 P1.0/TACLK/ACLK/A0+ (io), 2 P1.1/TA0/A0-/A4+ (io), 3 P1.2/TA1/A1+/A4- (io), 4 P1.3/VREF/A1- (io), 5 P1.4/SMCLK/A2+/TCK (io), 6 P1.5/TA0/A2-/SCLK/TMS (io), 7 P1.6/TA1/A3+/SDO/SCL/TDI/TCLK (io), 8 P1.7/A3-/SDI/SDA/TDO/TDI (io), 9 ~{RST}/NMI/SBWTDIO (io), 10 TEST/SBWTCK (in), 11 P2.7/XOUT (io), 12 P2.6/XIN/TA1 (io), 13 AVSS (power) "Analog ground reference", 14 DVSS (power) "Digital ground reference", 15 AVCC (power) "Analog supply voltage", 16 DVCC (power) "Digital supply voltage", 17 QFN PAD (power) "QFN package pad. Connection to VSS is recommended."

## MSP430F2013IRSAT
designator U?
16 MHz Mixed Signal Microcontroller with 2 KB Flash, 128 B SRAM and 10 GPIOs, -40 to 85 degC, 16-pin QFN (RSA), Green (RoHS & no Sb/Br); Manufacturer: Texas Instruments; PartNumber: MSP430F2013IRSAT; ADC: 16-bit Sigma Delta; ADC Channels: 4; Brown Out Reset: Yes; Flash(KB): 2; Frequency(MHz): 16; GPIO: 10; SRAM(B): 128; SubFamily: 2 Series, Extended Temp; Timers - 16-bit: 1; DatasheetVersion: SLAS491H; PackageVersion: 4205141/D; PackageReference: RSA16-2700X2700TP; PackageDescription: 16-Pin Plastic Flat Pack, Body 4.00 x 4.00 mm, Pitch 0.65 mm; Supplier 1: Digi-Key; Supplier Part Number 1: MSP430F2013IRSAR-ND; Supplier 2: Newark; Supplier Part Number 2: 88K5744; Supplier 3: Mouser; Supplier Part Number 3: 595-MSP430F2013IRSAR; Eco-Plan: Green (RoHS & no Sb/Br); Temp Sensor: Yes; Watchdog: Yes; Mounting Technology: Surface Mount; Code_JEDEC: MO-220; ComponentLink1Description: Manufacturer URL; ComponentLink1URL: http://www.ti.com/; ComponentLink2Description: Datasheet; ComponentLink2URL: http://www.ti.com/general/docs/lit/getliterature.tsp?genericPartNumber=MSP430F2013&fileType=pdf; ComponentLink3Description: Package Specification; ComponentLink3URL: http://www.ti.com/litv/pdf/mpqf145c
footprint TI-RSA16-2700X2700TP_N (QFN, 16-Leads, Body 4x4mm, Pitch 0.65mm, Thermal Pad 2.7x2.7mm, IPC Medium Density)
pins: 1 P1.0/TACLK/ACLK/A0+ (io), 2 P1.1/TA0/A0-/A4+ (io), 3 P1.2/TA1/A1+/A4- (io), 4 P1.3/VREF/A1- (io), 5 P1.4/SMCLK/A2+/TCK (io), 6 P1.5/TA0/A2-/SCLK/TMS (io), 7 P1.6/TA1/A3+/SDO/SCL/TDI/TCLK (io), 8 P1.7/A3-/SDI/SDA/TDO/TDI (io), 9 ~{RST}/NMI/SBWTDIO (io), 10 TEST/SBWTCK (in), 11 P2.7/XOUT (io), 12 P2.6/XIN/TA1 (io), 13 AVSS (power) "Analog ground reference", 14 DVSS (power) "Digital ground reference", 15 AVCC (power) "Analog supply voltage", 16 DVCC (power) "Digital supply voltage", 17 QFN PAD (power) "QFN package pad. Connection to VSS is recommended."

## MSP430F2013QRSATEP
designator U?
16 MHz Mixed Signal Microcontroller with 2 KB Flash, 128 B SRAM and 10 GPIOs, -40 to 125 degC, 16-pin QFN (RSA), Green (RoHS & no Sb/Br); Manufacturer: Texas Instruments; PartNumber: MSP430F2013QRSATEP; ADC: 16-bit Sigma Delta; ADC Channels: 4; Brown Out Reset: Yes; Flash(KB): 2; Frequency(MHz): 16; GPIO: 10; SRAM(B): 128; SubFamily: Extended Temp; Timers - 16-bit: 1; USI: (I2C/SPI); DatasheetVersion: SLAS774A; PackageVersion: 4205141/D; PackageReference: RSA16-2700X2700TP; PackageDescription: 16-Pin Plastic Flat Pack, Body 4.00 x 4.00 mm, Pitch 0.65 mm; Supplier 1: Digi-Key; Supplier Part Number 1: 296-19703-2-ND; Supplier 2: Digi-Key; Supplier Part Number 2: 296-19703-1-ND; Supplier 3: Digi-Key; Supplier Part Number 3: 296-19703-6-ND; Supplier 4: Farnell; Supplier Part Number 4: 1537183; Supplier 5: Farnell; Supplier Part Number 5: 1900093; Supplier 6: Newark; Supplier Part Number 6: 85K1073; Supplier 7: Mouser; Supplier Part Number 7: 595-MSP430F2013IRSAT; Eco-Plan: Green (RoHS & no Sb/Br); SVS: Yes; Temp Sensor: Yes; Watchdog: Yes; Mounting Technology: Surface Mount; Code_JEDEC: MO-220; ComponentLink1Description: Manufacturer URL; ComponentLink1URL: http://www.ti.com/; ComponentLink2Description: Datasheet; ComponentLink2URL: http://www.ti.com/general/docs/lit/getliterature.tsp?genericPartNumber=MSP430F2013-EP&fileType=pdf; ComponentLink3Description: Package Specification; ComponentLink3URL: http://www.ti.com/litv/pdf/mpqf145c
footprint TI-RSA16-2700X2700TP_N (QFN, 16-Leads, Body 4x4mm, Pitch 0.65mm, Thermal Pad 2.7x2.7mm, IPC Medium Density)
pins: 1 P1.0/TACLK/ACLK/A0+ (io), 2 P1.1/TA0/A0-/A4+ (io), 3 P1.2/TA1/A1+/A4- (io), 4 P1.3/VREF/A1- (io), 5 P1.4/SMCLK/A2+/TCK (io), 6 P1.5/TA0/A2-/SCLK/TMS (io), 7 P1.6/TA1/A3+/SDO/SCL/TDI/TCLK (io), 8 P1.7/A3-/SDI/SDA/TDO/TDI (io), 9 ~{RST}/NMI/SBWTDIO (io), 10 TEST/SBWTCK (in), 11 P2.7/XOUT (io), 12 P2.6/XIN/TA1 (io), 13 AVSS (power) "Analog ground reference", 14 DVSS (power) "Digital ground reference", 15 AVCC (power) "Analog supply voltage", 16 DVCC (power) "Digital supply voltage", 17 QFN PAD (power) "QFN package pad. Connection to VSS is recommended."

## MSP430F2013TN
designator U?
16 MHz Mixed Signal Microcontroller with 2 KB Flash, 128 B SRAM and 10 GPIOs, -40 to 105 degC, 14-pin DIP (N), Pb-Free (RoHS); Manufacturer: Texas Instruments; PartNumber: MSP430F2013TN; ADC: 16-bit Sigma Delta; ADC Channels: 4; Brown Out Reset: Yes; Flash(KB): 2; Frequency(MHz): 16; GPIO: 10; SRAM(B): 128; SubFamily: 2 Series, Extended Temp; Timers - 16-bit: 1; DatasheetVersion: SLAS491H; PackageVersion: 4040049/E; PackageReference: N14; PackageDescription: 14-Pin Plastic In-Line, Body 19.305 x 6.35 mm, Pitch 2.54 mm; Supplier 1: Digi-Key; Supplier Part Number 1: 296-29259-2-ND; Supplier 2: Digi-Key; Supplier Part Number 2: 296-29259-1-ND; Supplier 3: Digi-Key; Supplier Part Number 3: 296-29259-6-ND; Supplier 4: Newark; Supplier Part Number 4: 58T0223; Supplier 5: Mouser; Supplier Part Number 5: 595-P430F2013QRSATEP; Eco-Plan: Pb-Free (RoHS); Temp Sensor: Yes; Watchdog: Yes; Mounting Technology: Through Hole; Code_JEDEC: MS-001; ComponentLink1Description: Manufacturer URL; ComponentLink1URL: http://www.ti.com/; ComponentLink2Description: Datasheet; ComponentLink2URL: http://www.ti.com/general/docs/lit/getliterature.tsp?genericPartNumber=MSP430F2013&fileType=pdf; ComponentLink3Description: Package Specification; ComponentLink3URL: http://www.ti.com/litv/pdf/mplc004a
footprint TI-N14 (DIP, 14-Leads, Body 19.305x6.35 mm, Pitch 2.54 mm)
pins: 1 VCC (power) "Supply voltage", 2 P1.0/TACLK/ACLK/A0+ (io), 3 P1.1/TA0/A0-/A4+ (io), 4 P1.2/TA1/A1+/A4- (io), 5 P1.3/VREF/A1- (io), 6 P1.4/SMCLK/A2+/TCK (io), 7 P1.5/TA0/A2-/SCLK/TMS (io), 8 P1.6/TA1/A3+/SDO/SCL/TDI/TCLK (io), 9 P1.7/A3-/SDI/SDA/TDO/TDI (io), 10 ~{RST}/NMI/SBWTDIO (io), 11 TEST/SBWTCK (in), 12 P2.7/XOUT (io), 13 P2.6/XIN/TA1 (io), 14 VSS (power) "Ground reference"

## MSP430F2013TPW
designator U?
16 MHz Mixed Signal Microcontroller with 2 KB Flash, 128 B SRAM and 10 GPIOs, -40 to 105 degC, 14-pin SOP (PW), Green (RoHS & no Sb/Br); Manufacturer: Texas Instruments; PartNumber: MSP430F2013TPW; ADC: 16-bit Sigma Delta; ADC Channels: 4; Brown Out Reset: Yes; Flash(KB): 2; Frequency(MHz): 16; GPIO: 10; SRAM(B): 128; SubFamily: 2 Series, Extended Temp; Timers - 16-bit: 1; DatasheetVersion: SLAS491H; PackageVersion: 4040064-3/G; PackageReference: PW14; PackageDescription: 14-Pin Plastic Small Outline, Body 5 x 4.4 mm, 0.65 mm Pitch; Supplier 1: Digi-Key; Supplier Part Number 1: 296-19704-5-ND; Supplier 2: Farnell; Supplier Part Number 2: 1649406; Supplier 3: Newark; Supplier Part Number 3: 85K1074; Supplier 4: Mouser; Supplier Part Number 4: 595-MSP430F2013TN; Eco-Plan: Green (RoHS & no Sb/Br); Temp Sensor: Yes; Watchdog: Yes; Mounting Technology: Surface Mount; Code_JEDEC: MO-153; ComponentLink1Description: Manufacturer URL; ComponentLink1URL: http://www.ti.com/; ComponentLink2Description: Datasheet; ComponentLink2URL: http://www.ti.com/general/docs/lit/getliterature.tsp?genericPartNumber=MSP430F2013&fileType=pdf; ComponentLink3Description: Package Specification; ComponentLink3URL: http://www.ti.com/litv/pdf/mpds360
footprint TI-PW14_N (SOP, 14-Leads, Body 5x4.4mm, Pitch 0.65mm, IPC Medium Density)
pins: 1 VCC (power) "Supply voltage", 2 P1.0/TACLK/ACLK/A0+ (io), 3 P1.1/TA0/A0-/A4+ (io), 4 P1.2/TA1/A1+/A4- (io), 5 P1.3/VREF/A1- (io), 6 P1.4/SMCLK/A2+/TCK (io), 7 P1.5/TA0/A2-/SCLK/TMS (io), 8 P1.6/TA1/A3+/SDO/SCL/TDI/TCLK (io), 9 P1.7/A3-/SDI/SDA/TDO/TDI (io), 10 ~{RST}/NMI/SBWTDIO (io), 11 TEST/SBWTCK (in), 12 P2.7/XOUT (io), 13 P2.6/XIN/TA1 (io), 14 VSS (power) "Ground reference"

## MSP430F2013TPWR
designator U?
16 MHz Mixed Signal Microcontroller with 2 KB Flash, 128 B SRAM and 10 GPIOs, -40 to 105 degC, 14-pin SOP (PW), Green (RoHS & no Sb/Br); Manufacturer: Texas Instruments; PartNumber: MSP430F2013TPWR; ADC: 16-bit Sigma Delta; ADC Channels: 4; Brown Out Reset: Yes; Flash(KB): 2; Frequency(MHz): 16; GPIO: 10; SRAM(B): 128; SubFamily: 2 Series, Extended Temp; Timers - 16-bit: 1; DatasheetVersion: SLAS491H; PackageVersion: 4040064-3/G; PackageReference: PW14; PackageDescription: 14-Pin Plastic Small Outline, Body 5 x 4.4 mm, 0.65 mm Pitch; Supplier 1: Digi-Key; Supplier Part Number 1: 296-26194-5-ND; Supplier 2: Farnell; Supplier Part Number 2: 1610177; Supplier 3: Newark; Supplier Part Number 3: 88K5745; Supplier 4: Mouser; Supplier Part Number 4: 595-MSP430F2013TPW; Eco-Plan: Green (RoHS & no Sb/Br); Temp Sensor: Yes; Watchdog: Yes; Mounting Technology: Surface Mount; Code_JEDEC: MO-153; ComponentLink1Description: Manufacturer URL; ComponentLink1URL: http://www.ti.com/; ComponentLink2Description: Datasheet; ComponentLink2URL: http://www.ti.com/general/docs/lit/getliterature.tsp?genericPartNumber=MSP430F2013&fileType=pdf; ComponentLink3Description: Package Specification; ComponentLink3URL: http://www.ti.com/litv/pdf/mpds360
footprint TI-PW14_N (SOP, 14-Leads, Body 5x4.4mm, Pitch 0.65mm, IPC Medium Density)
pins: 1 VCC (power) "Supply voltage", 2 P1.0/TACLK/ACLK/A0+ (io), 3 P1.1/TA0/A0-/A4+ (io), 4 P1.2/TA1/A1+/A4- (io), 5 P1.3/VREF/A1- (io), 6 P1.4/SMCLK/A2+/TCK (io), 7 P1.5/TA0/A2-/SCLK/TMS (io), 8 P1.6/TA1/A3+/SDO/SCL/TDI/TCLK (io), 9 P1.7/A3-/SDI/SDA/TDO/TDI (io), 10 ~{RST}/NMI/SBWTDIO (io), 11 TEST/SBWTCK (in), 12 P2.7/XOUT (io), 13 P2.6/XIN/TA1 (io), 14 VSS (power) "Ground reference"

## MSP430F2013TRSAR
designator U?
16 MHz Mixed Signal Microcontroller with 2 KB Flash, 128 B SRAM and 10 GPIOs, -40 to 105 degC, 16-pin QFN (RSA), Green (RoHS & no Sb/Br); Manufacturer: Texas Instruments; PartNumber: MSP430F2013TRSAR; ADC: 16-bit Sigma Delta; ADC Channels: 4; Brown Out Reset: Yes; Flash(KB): 2; Frequency(MHz): 16; GPIO: 10; SRAM(B): 128; SubFamily: 2 Series, Extended Temp; Timers - 16-bit: 1; DatasheetVersion: SLAS491H; PackageVersion: 4205141/D; PackageReference: RSA16-2700X2700TP; PackageDescription: 16-Pin Plastic Flat Pack, Body 4.00 x 4.00 mm, Pitch 0.65 mm; Supplier 1: Digi-Key; Supplier Part Number 1: 296-19705-2-ND; Supplier 2: Digi-Key; Supplier Part Number 2: 296-19705-1-ND; Supplier 3: Digi-Key; Supplier Part Number 3: 296-19705-6-ND; Supplier 4: Newark; Supplier Part Number 4: 85K1075; Supplier 5: Mouser; Supplier Part Number 5: 595-MSP430F2013TPWR; Eco-Plan: Green (RoHS & no Sb/Br); Temp Sensor: Yes; Watchdog: Yes; Mounting Technology: Surface Mount; Code_JEDEC: MO-220; ComponentLink1Description: Manufacturer URL; ComponentLink1URL: http://www.ti.com/; ComponentLink2Description: Datasheet; ComponentLink2URL: http://www.ti.com/general/docs/lit/getliterature.tsp?genericPartNumber=MSP430F2013&fileType=pdf; ComponentLink3Description: Package Specification; ComponentLink3URL: http://www.ti.com/litv/pdf/mpqf145c
footprint TI-RSA16-2700X2700TP_N (QFN, 16-Leads, Body 4x4mm, Pitch 0.65mm, Thermal Pad 2.7x2.7mm, IPC Medium Density)
pins: 1 P1.0/TACLK/ACLK/A0+ (io), 2 P1.1/TA0/A0-/A4+ (io), 3 P1.2/TA1/A1+/A4- (io), 4 P1.3/VREF/A1- (io), 5 P1.4/SMCLK/A2+/TCK (io), 6 P1.5/TA0/A2-/SCLK/TMS (io), 7 P1.6/TA1/A3+/SDO/SCL/TDI/TCLK (io), 8 P1.7/A3-/SDI/SDA/TDO/TDI (io), 9 ~{RST}/NMI/SBWTDIO (io), 10 TEST/SBWTCK (in), 11 P2.7/XOUT (io), 12 P2.6/XIN/TA1 (io), 13 AVSS (power) "Analog ground reference", 14 DVSS (power) "Digital ground reference", 15 AVCC (power) "Analog supply voltage", 16 DVCC (power) "Digital supply voltage", 17 QFN PAD (power) "QFN package pad. Connection to VSS is recommended."